# EAGLE library part 90814-0906 (library Molex_By_element14_Batch_1)
CONN HEADER 6POS 1.27MM SMD TIN
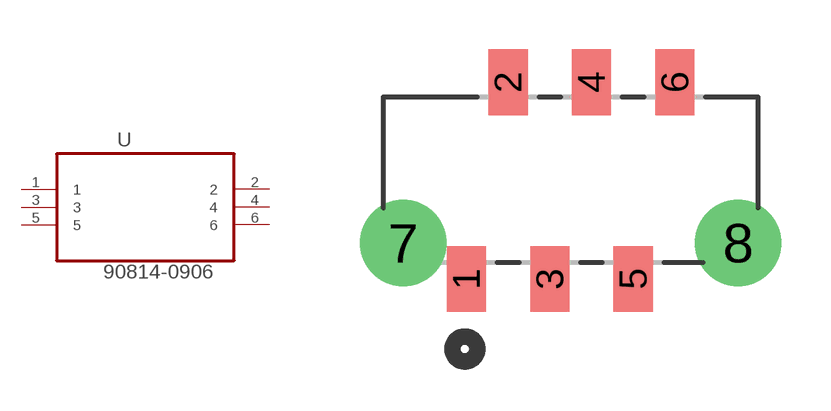
[diagram p66: symbol with the pads of MOLEX_90814-0906; footprint MOLEX_90814-0906]

Designator prefix U

## 90814-0906 (MPN: 90814-0906; OC_FARNELL: 1757036; OC_NEWARK: 34R6226; PACKAGE: CONN-6POS; SUPPLIER: Molex)  [MOLEX_90814-0906]
1  1  pas
2  2  pas
3  3  pas
4  4  pas
5  5  pas
6  6  pas

## Footprint MOLEX_90814-0906 (pad centres in mm)
smd 1.194 x 2.007: 1 0,0; 2 1.27,5.994; 3 2.54,0; 4 3.81,5.994; 5 5.08,0; 6 6.35,5.994
drill 1.753: 7 -1.93,1.092; 8 8.28,1.092